# EAGLE library part RFM26W (library kaibader)
RFM26W ISM Transceiver module.
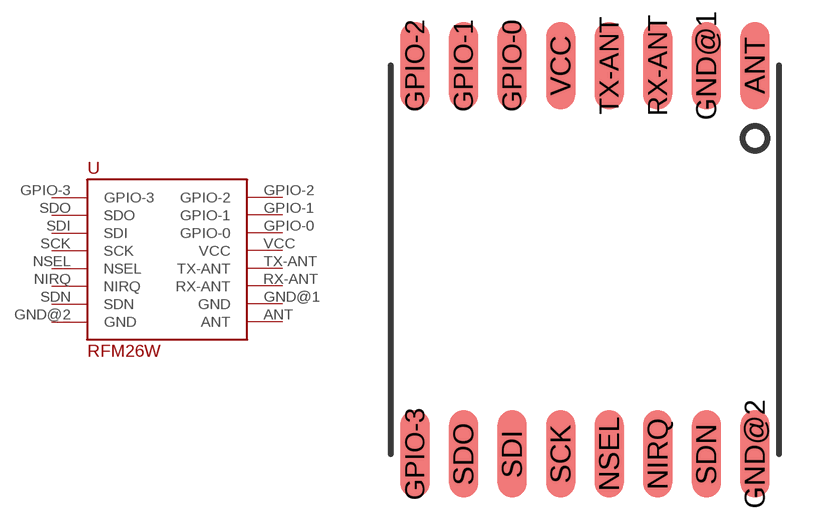
[diagram p10: symbol with the pads of RFM26W; footprint RFM26W]

Designator prefix U

## RFM26W  [RFM26W]
ANT  ANT
GND@1  GND  pwr
GND@2  GND  pwr
GPIO-0  GPIO-0
GPIO-1  GPIO-1
GPIO-2  GPIO-2
GPIO-3  GPIO-3
NIRQ  NIRQ
NSEL  NSEL
RX-ANT  RX-ANT
SCK  SCK
SDI  SDI
SDN  SDN
SDO  SDO
TX-ANT  TX-ANT
VCC  VCC  pwr

## Footprint RFM26W (pad centres in mm)
RFM26W ISM Transceiver module.
smd 1.2 x 3.6: ANT 7,8; GND@1 5,8; GND@2 7,-8; GPIO-0 -3,8; GPIO-1 -5,8; GPIO-2 -7,8; GPIO-3 -7,-8; NIRQ 3,-8; NSEL 1,-8; RX-ANT 3,8; SCK -1,-8; SDI -3,-8; SDN 5,-8; SDO -5,-8; TX-ANT 1,8; VCC -1,8